# Altium footprint library WE-CMB.PcbLib: 17 footprints (part 1 of 2)
Each footprint in its own frame and in the unit in brackets; x right, y up, seen from the top. Pads: shape width x height; smd on the part's side, far side on the other; paste and mask are expansions set on the pad; w line width, h text height; cw(c..) or ccw(c..) is an arc to the next point about the centre after c.
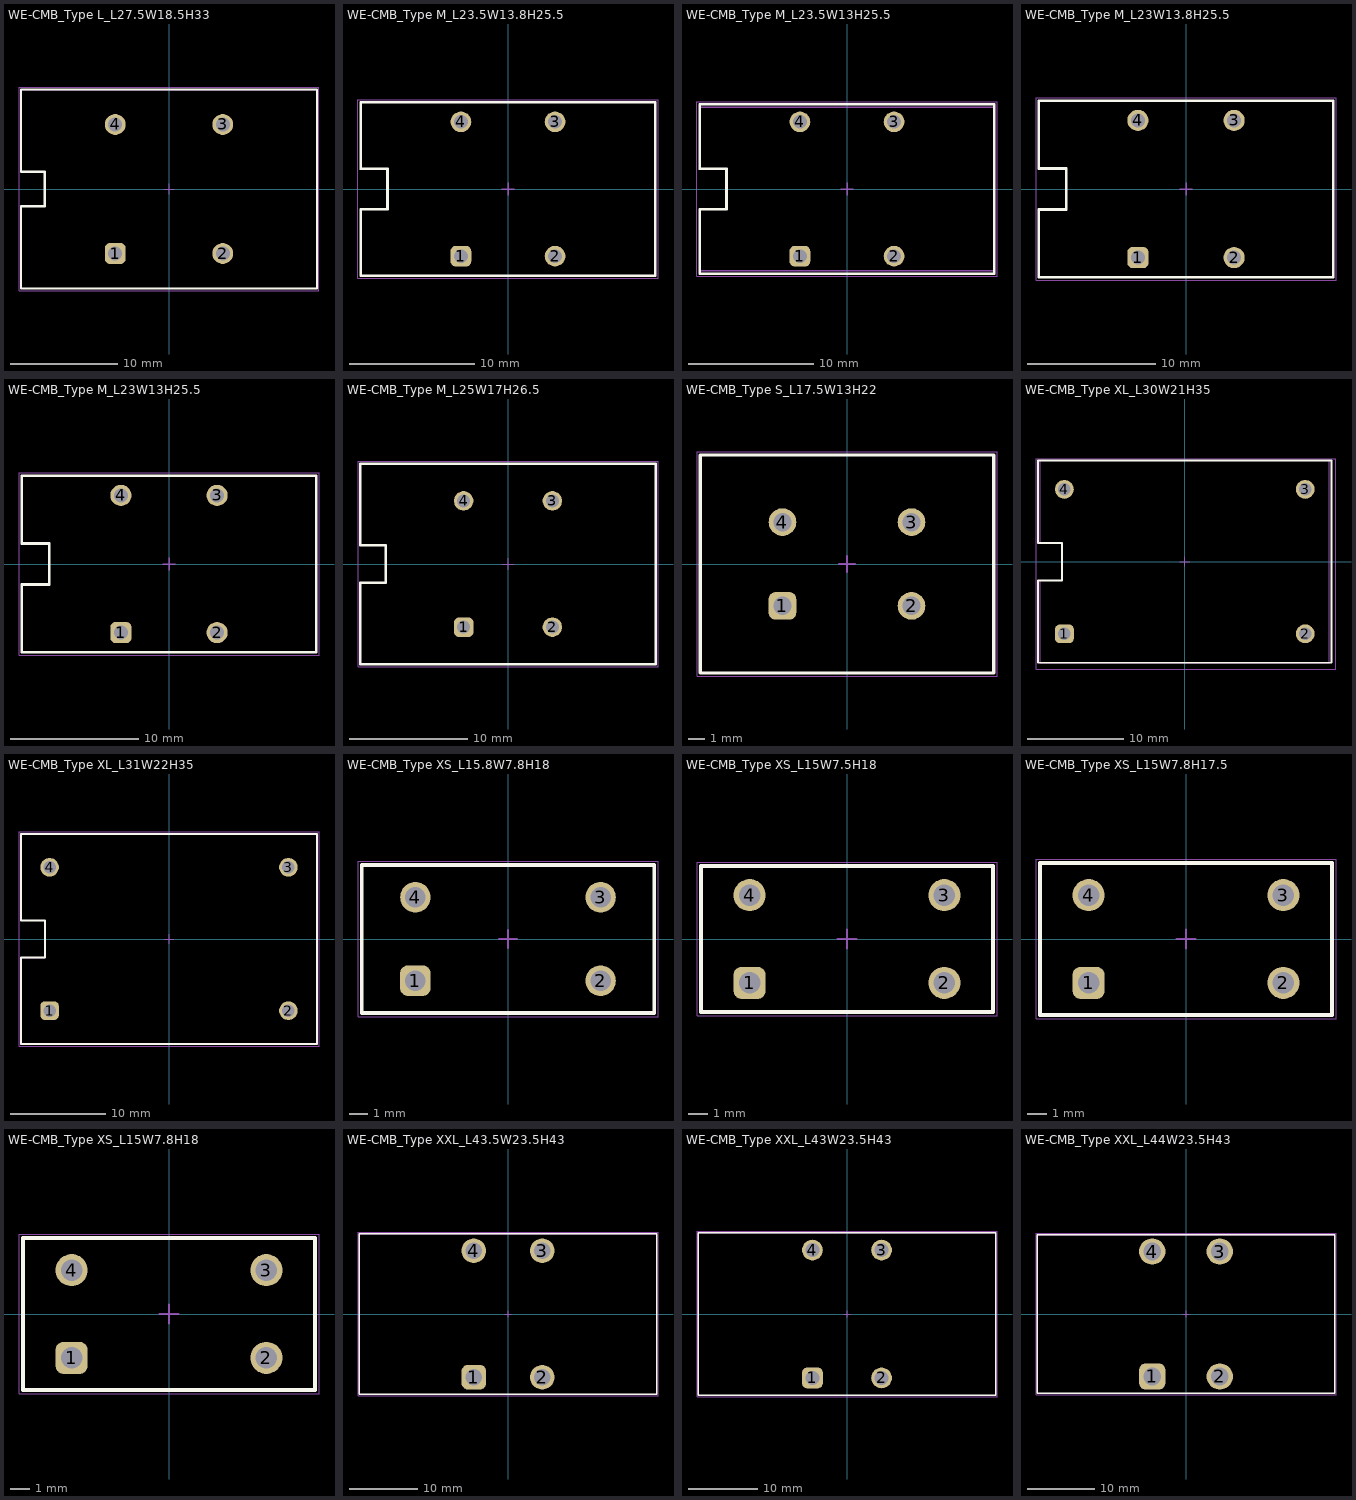
[diagram p0: the footprints below, top view; thin cyan lines are the x and y axes]

## WE-CMB_Type L_L27.5W18.5H33 [mm] "Common Mode Power Line Choke, 4-Leads, body 27.5x18.5mm"
height 33
pads (4):
  rrect50% 1.95x1.95 hole 1.3: 1(-5,-6)
  round 1.95 hole 1.3: 2(5,-6) 3(5,6) 4(-5,6)
Top Overlay:
  lines w0.2: -13.75,-9.25 -13.75,-1.6 -11.55,-1.6 -11.55,1.6 -13.75,1.6 -13.75,9.25 13.75,9.25 13.75,-9.25 -13.75,-9.25
Top Assembly:
  lines w0.1: -13.75,-9.25 13.75,-9.25 13.75,9.25 -13.75,9.25 -13.75,1.6 -11.55,1.6 -11.55,-1.6 -13.75,-1.6 -13.75,-9.25
Top Designator:
  text ".Designator" at -3.647,-0.357 h1
Top 3D Body:
  lines w0.1: -13.75,-9.25 -13.75,-1.6 -11.55,-1.6 -11.55,1.6 -13.75,1.6 -13.75,9.25 13.75,9.25 13.75,-9.25 -13.75,-9.25
Top Courtyard:
  lines w0.05: -13.95,-9.45 -13.95,9.45 13.95,9.45 13.95,-9.45 -13.95,-9.45
Top Component Center:
  lines w0.1: -0.5,0 0.5,0 ; 0,-0.5 0,0.5
3D body "744824101_L.stp": height 28.88, standoff -4.7, extent -12.398,-8.5 12.398,8.534

## WE-CMB_Type M_L23.5W13.8H25.5 [mm] "Common Mode Power Line Choke, 4-Leads, body 23.5x13.8mm"
height 25.5
pads (4):
  rrect50% 1.65x1.65 hole 1.1: 1(-3.75,-5.35)
  round 1.65 hole 1.1: 2(3.75,-5.35) 3(3.75,5.35) 4(-3.75,5.35)
Top Overlay:
  lines w0.2: -11.75,1.6 -11.75,6.9 11.75,6.9 11.75,-6.9 -11.75,-6.9 -11.75,-1.6 -9.6,-1.6 -9.6,1.6 -11.75,1.6 ; -11.75,1.6 -11.75,1.6
Top Assembly:
  lines w0.1: -11.75,1.6 -11.75,1.6 ; -11.75,1.6 -9.6,1.6 -9.6,-1.6 -11.75,-1.6 -11.75,-6.9 11.75,-6.9 11.75,6.9 -11.75,6.9 -11.75,1.6
Top Designator:
  text ".Designator" at -3.647,-0.357 h1
Top 3D Body:
  lines w0.1: -11.75,1.6 -11.75,6.9 11.75,6.9 11.75,-6.9 -11.75,-6.9 -11.75,-1.6 -9.6,-1.6 -9.6,1.6 -11.75,1.6 ; -11.75,1.6 -11.75,1.6
Top Courtyard:
  lines w0.05: -11.95,-7.1 11.95,-7.1 11.95,7.1 -11.95,7.1 -11.95,-7.1
Top Component Center:
  lines w0.1: -0.5,0 0.5,0 ; 0,-0.5 0,0.5
3D body "744823422_M.stp": height 23.2, standoff -2.9, extent -9.681,-6.5 9.682,6.5

## WE-CMB_Type M_L23.5W13H25.5 [mm] "Common Mode Power Line Choke, 4-Leads, body 23.5x13mm"
height 25.5
pads (4):
  rrect50% 1.65x1.65 hole 1.1: 1(-3.75,-5.35)
  round 1.65 hole 1.1: 2(3.75,-5.35) 3(3.75,5.35) 4(-3.75,5.35)
Top Overlay:
  lines w0.2: -11.75,1.6 -11.75,6.75 11.75,6.75 11.75,-6.75 -11.75,-6.75 -11.75,-1.6 -9.6,-1.6 -9.6,1.6 -11.75,1.6 ; -11.75,1.6 -11.75,1.6
Top Assembly:
  lines w0.1: -11.75,1.6 -11.75,1.6 ; -11.75,1.6 -9.6,1.6 -9.6,-1.6 -11.75,-1.6 -11.75,-6.5 11.75,-6.5 11.75,6.5 -11.75,6.5 -11.75,1.6
Top Designator:
  text ".Designator" at -3.647,-0.357 h1
Top 3D Body:
  lines w0.1: -11.75,1.6 -11.75,6.5 11.75,6.5 11.75,-6.5 -11.75,-6.5 -11.75,-1.6 -9.6,-1.6 -9.6,1.6 -11.75,1.6 ; -11.75,1.6 -11.75,1.6
Top Courtyard:
  lines w0.05: -11.95,-6.95 11.95,-6.95 11.95,6.95 -11.95,6.95 -11.95,-6.95
Top Component Center:
  lines w0.1: -0.5,0 0.5,0 ; 0,-0.5 0,0.5
3D body "744823333_M.stp": height 23.2, standoff -2.9, extent -9.554,-6.5 9.554,6.5

## WE-CMB_Type M_L23W13.8H25.5 [mm] "Common Mode Power Line Choke, 4-Leads, body 23x13.8mm"
height 25.5
pads (4):
  rrect50% 1.65x1.65 hole 1.1: 1(-3.75,-5.35)
  round 1.65 hole 1.1: 2(3.75,-5.35) 3(3.75,5.35) 4(-3.75,5.35)
Top Overlay:
  lines w0.2: -11.5,1.6 -11.5,1.6 ; -11.5,1.6 -9.35,1.6 -9.35,-1.6 -11.5,-1.6 -11.5,-6.9 11.5,-6.9 11.5,6.9 -11.5,6.9 -11.5,1.6
Top Assembly:
  lines w0.1: -11.5,1.6 -11.5,6.9 11.5,6.9 11.5,-6.9 -11.5,-6.9 -11.5,-1.6 -9.35,-1.6 -9.35,1.6 -11.5,1.6 ; -11.5,1.6 -11.5,1.6
Top Designator:
  text ".Designator" at -3.647,-0.357 h1
Top 3D Body:
  lines w0.1: -11.5,1.6 -11.5,1.6 ; -11.5,1.6 -9.35,1.6 -9.35,-1.6 -11.5,-1.6 -11.5,-6.9 11.5,-6.9 11.5,6.9 -11.5,6.9 -11.5,1.6
Top Courtyard:
  lines w0.05: -11.7,-7.1 -11.7,7.1 11.7,7.1 11.7,-7.1 -11.7,-7.1
Top Component Center:
  lines w0.1: -0.5,0 0.5,0 ; 0,-0.5 0,0.5
3D body "744823210_M.stp": height 23.2, standoff -2.9, extent -10.059,-6.5 10.059,6.5

## WE-CMB_Type M_L23W13H25.5 [mm] "Common Mode Power Line Choke, 4-Leads, body 23x13mm"
height 25.5
pads (4):
  rrect50% 1.65x1.65 hole 1.1: 1(-3.75,-5.35)
  round 1.65 hole 1.1: 2(3.75,-5.35) 3(3.75,5.35) 4(-3.75,5.35)
Top Overlay:
  lines w0.2: -11.5,1.6 -11.5,1.6 ; -11.5,1.6 -9.35,1.6 -9.35,-1.6 -11.5,-1.6 -11.5,-6.9 11.5,-6.9 11.5,6.9 -11.5,6.9 -11.5,1.6
Top Assembly:
  lines w0.1: -11.5,1.6 -11.5,1.6 ; -11.5,1.6 -9.35,1.6 -9.35,-1.6 -11.5,-1.6 -11.5,-6.9 11.5,-6.9 11.5,6.9 -11.5,6.9 -11.5,1.6
Top Designator:
  text ".Designator" at -3.647,-0.357 h1
Top 3D Body:
  lines w0.1: -11.5,1.6 -11.5,6.9 11.5,6.9 11.5,-6.9 -11.5,-6.9 -11.5,-1.6 -9.35,-1.6 -9.35,1.6 -11.5,1.6 ; -11.5,1.6 -11.5,1.6
Top Courtyard:
  lines w0.05: -11.7,-7.1 -11.7,7.1 11.7,7.1 11.7,-7.1 -11.7,-7.1
Top Component Center:
  lines w0.1: -0.5,0 0.5,0 ; 0,-0.5 0,0.5
3D body "744823305_M.stp": height 23.2, standoff -4.9, extent -10.101,-6.5 10.101,6.5

## WE-CMB_Type M_L25W17H26.5 [mm] "Common Mode Power Line Choke, 4-Leads, body 25x17mm"
height 26.5
pads (4):
  rrect50% 1.65x1.65 hole 1.1: 1(-3.75,-5.35)
  round 1.65 hole 1.1: 2(3.75,-5.35) 3(3.75,5.35) 4(-3.75,5.35)
Top Overlay:
  lines w0.2: -12.5,1.6 -12.5,8.5 12.5,8.5 12.5,-8.5 -12.5,-8.5 -12.5,-1.6 -10.35,-1.6 -10.35,1.6 -12.5,1.6 ; -12.5,1.6 -12.5,1.6
Top Assembly:
  lines w0.1: -12.5,1.6 -12.5,1.6 ; -12.5,1.6 -10.35,1.6 -10.35,-1.6 -12.5,-1.6 -12.5,-8.5 12.5,-8.5 12.5,8.5 -12.5,8.5 -12.5,1.6
Top Designator:
  text ".Designator" at -3.647,-0.357 h1
Top 3D Body:
  lines w0.1: -12.5,1.6 -12.5,1.6 ; -12.5,1.6 -10.35,1.6 -10.35,-1.6 -12.5,-1.6 -12.5,-8.5 12.5,-8.5 12.5,8.5 -12.5,8.5 -12.5,1.6
Top Courtyard:
  lines w0.05: -12.7,-8.7 12.7,-8.7 12.7,8.7 -12.7,8.7 -12.7,-8.7
Top Component Center:
  lines w0.1: -0.5,0 0.5,0 ; 0,-0.5 0,0.5
3D body "744823601_M.stp": height 23.37, standoff -2.9, extent -9.941,-7.03 9.941,7.027

## WE-CMB_Type S_L17.5W13H22 [mm] "Common Mode Power Line Choke, 4-Leads, body 17.5x13mm"
height 22
pads (4):
  rrect50% 1.65x1.65 hole 1.1: 1(-3.85,-2.5)
  round 1.65 hole 1.1: 2(3.85,-2.5) 3(3.85,2.5) 4(-3.85,2.5)
Top Overlay:
  lines w0.2: -8.75,-6.5 8.75,-6.5 8.75,6.5 -8.75,6.5 -8.75,-6.5
Top Assembly:
  lines w0.1: -8.75,-6.5 -8.75,6.5 8.75,6.5 8.75,-6.5 -8.75,-6.5
Top Designator:
  text ".Designator" at -3.647,-0.357 h1
Top 3D Body:
  lines w0.1: -8.75,-6.5 8.75,-6.5 8.75,6.5 -8.75,6.5 -8.75,-6.5
Top Courtyard:
  lines w0.05: -8.95,-6.7 -8.95,6.7 8.95,6.7 8.95,-6.7 -8.95,-6.7
Top Component Center:
  lines w0.1: -0.5,0 0.5,0 ; 0,-0.5 0,0.5
3D body "744822110_S.stp": height 20.1, standoff -2.9, extent -7.763,-6.5 7.763,6.5

## WE-CMB_Type XL_L30W21H35 [mm] "Common Mode Power Line Choke, 4-Leads, body 30x21mm"
height 35
pads (4):
  rrect50% 1.95x1.95 hole 1.3: 1(-12.5,-7.5)
  round 1.95 hole 1.3: 2(12.5,-7.5) 3(12.5,7.5) 4(-12.5,7.5)
Top Overlay:
  lines w0.2: -15.25,-10.5 -15.25,-1.95 -12.75,-1.95 -12.75,1.95 -15.25,1.95 -15.25,10.5 15.25,10.5 15.25,-10.5 -15.25,-10.5
Top Assembly:
  lines w0.1: -15,-10.5 15,-10.5 15,10.5 -15,10.5 -15,1.95 -12.75,1.95 -12.75,-1.95 -15,-1.95 -15,-10.5
Top Designator:
  text ".Designator" at -3.647,-0.357 h1
Top 3D Body:
  lines w0.1: -15,-10.5 -15,-1.95 -12.75,-1.95 -12.75,1.95 -15,1.95 -15,10.5 15,10.5 15,-10.5 -15,-10.5
Top Courtyard:
  lines w0.05: -15.45,-11.2 -15.45,10.7 15.7,10.7 15.7,-11.2 -15.45,-11.2
Top Component Center:
  lines w0.1: -0.5,0 0.5,0 ; 0,-0.5 0,0.5
3D body "744825320_XL.stp": height 34.19, standoff -4.88, extent -15,-10.25 15,10.25

## WE-CMB_Type XL_L31W22H35 [mm] "Common Mode Power Line Choke, 4-Leads, body 31x22mm"
height 35
pads (4):
  rrect50% 1.95x1.95 hole 1.3: 1(-12.5,-7.5)
  round 1.95 hole 1.3: 2(12.5,-7.5) 3(12.5,7.5) 4(-12.5,7.5)
Top Overlay:
  lines w0.2: -15.5,-11 -15.5,-1.95 -13,-1.95 -13,1.95 -15.5,1.95 -15.5,11 15.5,11 15.5,-11 -15.5,-11
Top Assembly:
  lines w0.1: -15.5,-11 15.5,-11 15.5,11 -15.5,11 -15.5,1.95 -13,1.95 -13,-1.95 -15.5,-1.95 -15.5,-11
Top Designator:
  text ".Designator" at -3.647,-0.357 h1
Top 3D Body:
  lines w0.1: -15.5,-11 15.5,-11 15.5,11 -15.5,11 -15.5,1.95 -13,1.95 -13,-1.95 -15.5,-1.95 -15.5,-11
Top Courtyard:
  lines w0.05: -15.7,-11.2 -15.7,11.2 15.7,11.2 15.7,-11.2 -15.7,-11.2
Top Component Center:
  lines w0.1: -0.5,0 0.5,0 ; 0,-0.5 0,0.5
3D body "7448251201_XL.stp": height 35.11, standoff -4.8, extent -15,-11.215 15,10.25

## WE-CMB_Type XS_L15.8W7.8H18 [mm] "Common Mode Power Line Choke, 4-Leads, body 15.8x7.8mm"
height 18
pads (4):
  rrect50% 1.65x1.65 hole 1.1: 1(-5,-2.25)
  round 1.65 hole 1.1: 2(5,-2.25) 3(5,2.25) 4(-5,2.25)
Top Overlay:
  lines w0.2: -7.9,-4 7.9,-4 7.9,4 -7.9,4 -7.9,-4
Top Assembly:
  lines w0.1: -7.9,-4 -7.9,4 7.9,4 7.9,-4 -7.9,-4
Top Designator:
  text ".Designator" at -3.647,-0.357 h1
Top 3D Body:
  lines w0.1: -7.9,-4 7.9,-4 7.9,4 -7.9,4 -7.9,-4
Top Courtyard:
  lines w0.05: -8.1,-4.2 8.1,-4.2 8.1,4.2 -8.1,4.2 -8.1,-4.2
Top Component Center:
  lines w0.1: -0.5,0 0.5,0 ; 0,-0.5 0,0.5
3D body "744821240_XS.stp": height 17.32, standoff -2.45, extent -7.306,-3.75 7.305,3.75

## WE-CMB_Type XS_L15W7.5H18 [mm] "Common Mode Power Line Choke, 4-Leads, body 15x7.5mm"
height 18
pads (4):
  rrect50% 1.65x1.65 hole 1.1: 1(-5,-2.25)
  round 1.65 hole 1.1: 2(5,-2.25) 3(5,2.25) 4(-5,2.25)
Top Overlay:
  lines w0.2: -7.5,-3.75 7.5,-3.75 7.5,3.75 -7.5,3.75 -7.5,-3.75
Top Assembly:
  lines w0.1: -7.5,-3.75 -7.5,3.75 7.5,3.75 7.5,-3.75 -7.5,-3.75
Top Designator:
  text ".Designator" at -3.647,-0.357 h1
Top 3D Body:
  lines w0.1: -7.5,-3.75 7.5,-3.75 7.5,3.75 -7.5,3.75 -7.5,-3.75
Top Courtyard:
  lines w0.05: -7.7,-3.95 7.7,-3.95 7.7,3.95 -7.7,3.95 -7.7,-3.95
Top Component Center:
  lines w0.1: -0.5,0 0.5,0 ; 0,-0.5 0,0.5
3D body "744821039_XS.stp": height 17.57, standoff -2.45, extent -6.918,-3.75 6.918,3.75

## WE-CMB_Type XS_L15W7.8H17.5 [mm] "Common Mode Power Line Choke, 4-Leads, body 15x7.8mm"
height 17.5
pads (4):
  rrect50% 1.65x1.65 hole 1.1: 1(-5,-2.25)
  round 1.65 hole 1.1: 2(5,-2.25) 3(5,2.25) 4(-5,2.25)
Top Overlay:
  lines w0.2: -7.5,-3.9 -7.5,3.9 7.5,3.9 7.5,-3.9 -7.5,-3.9
Top Assembly:
  lines w0.1: -7.5,-3.9 7.5,-3.9 7.5,3.9 -7.5,3.9 -7.5,-3.9
Top Designator:
  text ".Designator" at -3.647,-0.357 h1
Top 3D Body:
  lines w0.1: -7.5,-3.9 -7.5,3.9 7.5,3.9 7.5,-3.9 -7.5,-3.9
Top Courtyard:
  lines w0.05: -7.7,-4.1 -7.7,4.1 7.7,4.1 7.7,-4.1 -7.7,-4.1
Top Component Center:
  lines w0.1: -0.5,0 0.5,0 ; 0,-0.5 0,0.5
3D body "744821120_XS.stp": height 17.32, standoff -2.45, extent -7.1,-3.75 7.1,3.75

## WE-CMB_Type XS_L15W7.8H18 [mm] "Common Mode Power Line Choke, 4-Leads, body 15x7.8mm"
height 18
pads (4):
  rrect50% 1.65x1.65 hole 1.1: 1(-5,-2.25)
  round 1.65 hole 1.1: 2(5,-2.25) 3(5,2.25) 4(-5,2.25)
Top Overlay:
  lines w0.2: -7.5,-3.9 7.5,-3.9 7.5,3.9 -7.5,3.9 -7.5,-3.9
Top Assembly:
  lines w0.1: -7.5,-3.9 -7.5,3.9 7.5,3.9 7.5,-3.9 -7.5,-3.9
Top Designator:
  text ".Designator" at -3.647,-0.357 h1
Top 3D Body:
  lines w0.1: -7.5,-3.9 7.5,-3.9 7.5,3.9 -7.5,3.9 -7.5,-3.9
Top Courtyard:
  lines w0.05: -7.7,-4.1 7.7,-4.1 7.7,4.1 -7.7,4.1 -7.7,-4.1
Top Component Center:
  lines w0.1: -0.5,0 0.5,0 ; 0,-0.5 0,0.5
3D body "744821150_XS.stp": height 17.37, standoff -2.4, extent -7.13,-3.75 7.129,3.75

## WE-CMB_Type XXL_L43.5W23.5H43 [mm] "Common Mode Power Line Choke, 4-Leads, body 43.5x23.5mm"
height 43
pads (4):
  rrect50% 3.6x3.6 hole 2.4: 1(-5,-9.25)
  round 3.6 hole 2.4: 2(5,-9.25) 3(5,9.25) 4(-5,9.25)
Top Overlay:
  lines w0.2: -21.75,-11.75 -21.75,11.75 21.75,11.75 21.75,-11.75 -21.75,-11.75
Top Assembly:
  lines w0.1: -21.75,-11.75 21.75,-11.75 21.75,11.75 -21.75,11.75 -21.75,-11.75
Top Designator:
  text ".Designator" at -3.647,-0.357 h1
Top 3D Body:
  lines w0.1: -21.75,-11.75 -21.75,11.75 21.75,11.75 21.75,-11.75 -21.75,-11.75
Top Courtyard:
  lines w0.05: -21.95,-11.95 21.95,-11.95 21.95,11.95 -21.95,11.95 -21.95,-11.95
Top Component Center:
  lines w0.1: -0.5,0 0.5,0 ; 0,-0.5 0,0.5
3D body "7448262013.stp": height 40.15, standoff -2.8, extent -19.784,-11.5 19.784,11.5

## WE-CMB_Type XXL_L43W23.5H43 [mm] "Common Mode Power Line Choke, 4-Leads, body 43x23.5mm"
height 43
pads (4):
  rrect50% 3x3 hole 2: 1(-5,-9.25)
  round 3 hole 2: 2(5,-9.25) 3(5,9.25) 4(-5,9.25)
Top Overlay:
  lines w0.2: -21.5,-11.75 21.5,-11.75 21.5,11.75 -21.5,11.75 -21.5,-11.75
Top Assembly:
  lines w0.1: -21.5,-11.75 -21.5,11.75 21.5,11.75 21.5,-11.75 -21.5,-11.75
Top Designator:
  text ".Designator" at -3.647,-0.357 h1
Top 3D Body:
  lines w0.1: -21.5,-11.75 21.5,-11.75 21.5,11.75 -21.5,11.75 -21.5,-11.75
Top Courtyard:
  lines w0.05: -21.7,-11.95 21.7,-11.95 21.7,11.95 -21.7,11.95 -21.7,-11.95
Top Component Center:
  lines w0.1: -0.5,0 0.5,0 ; 0,-0.5 0,0.5
3D body "7448261418.stp": height 39.91, standoff -2.95, extent -19.588,-11.5 19.588,11.5

## WE-CMB_Type XXL_L44W23.5H43 [mm] "Common Mode Power Line Choke, 4-Leads, body 44x23.5mm"
height 43
pads (4):
  rrect50% 3.9x3.9 hole 2.6: 1(-5,-9.25)
  round 3.9 hole 2.6: 2(5,-9.25) 3(5,9.25) 4(-5,9.25)
Top Overlay:
  lines w0.2: -22,-11.75 22,-11.75 22,11.75 -22,11.75 -22,-11.75
Top Assembly:
  lines w0.1: -22,-11.75 -22,11.75 22,11.75 22,-11.75 -22,-11.75
Top Designator:
  text ".Designator" at -3.647,-0.357 h1
Top 3D Body:
  lines w0.1: -22,-11.75 22,-11.75 22,11.75 -22,11.75 -22,-11.75
Top Courtyard:
  lines w0.05: -22.2,-11.95 -22.2,11.95 22.2,11.95 22.2,-11.95 -22.2,-11.95
Top Component Center:
  lines w0.1: -0.5,0 0.5,0 ; 0,-0.5 0,0.5
3D body "7448262510.stp": height 41.18, standoff -2.8, extent -20.005,-11.5 20.005,11.5